# Altium schematic symbol library BA178M05FP-E2.SchLib: 1 symbol
Pins are listed as number, name and electrical type; pins without a type are passive.

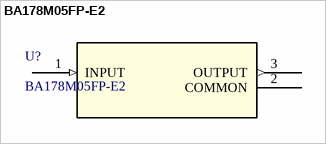
[diagram p0: symbol BA178M05FP-E2]

## BA178M05FP-E2
designator U?
No Description Available; Manufacturer_Name: ROHM Semiconductor; Copyright: Copyright (C) 2025 Ultra Librarian. All rights reserved.; Manufacturer_Part_Number: BA178M05FP-E2; RefDes: RefDes; Type: Type
footprint TOT252-3_BA178_ROM
pins: 1 INPUT (in), 2 COMMON, 3 OUTPUT (out)